# Altium integrated library pdmlse_pcb.IntLib: 82 symbols (part 1 of 2)
Pins are listed as number, name and electrical type; pins without a type are passive.

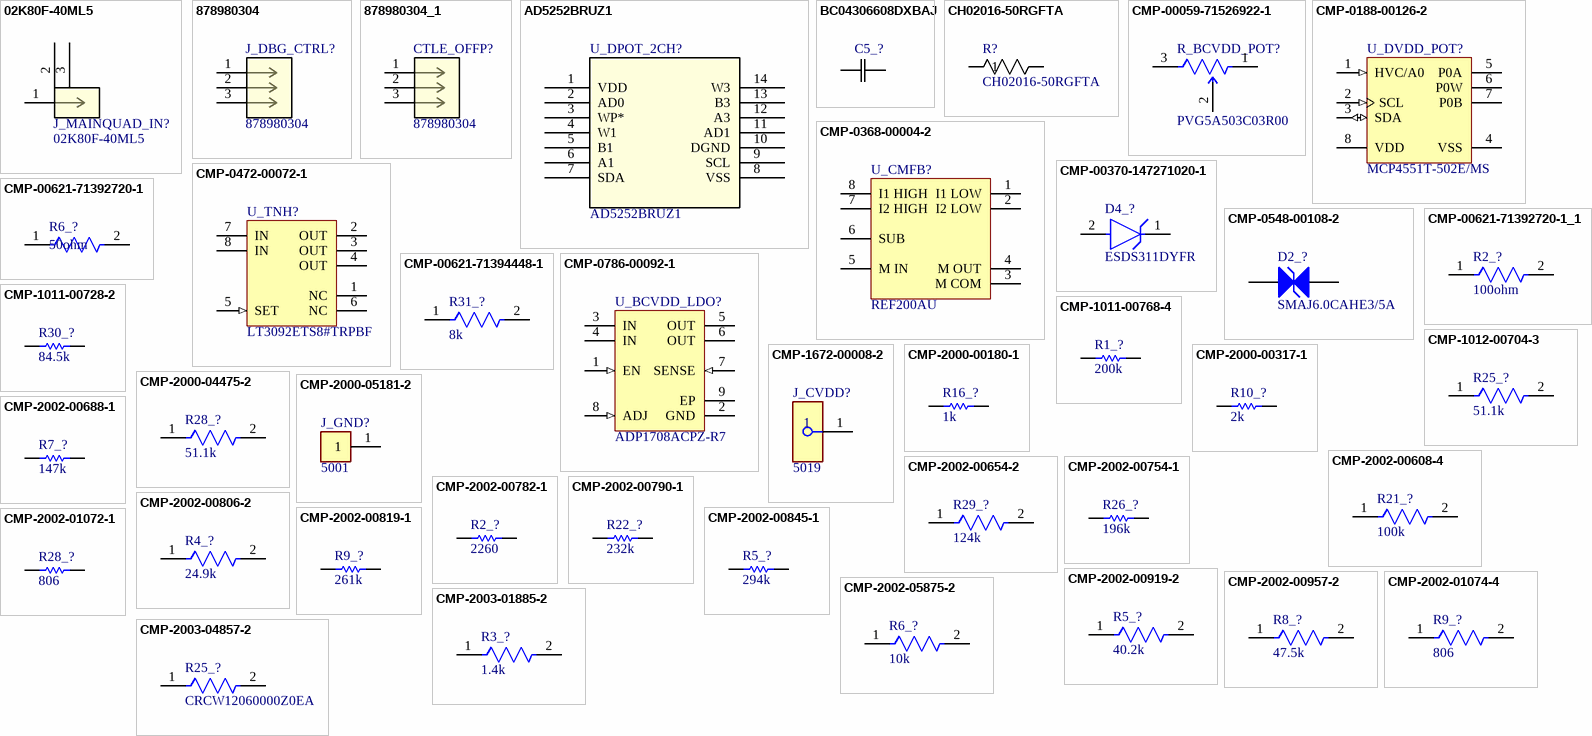
[diagram p0: symbols 02K80F-40ML5 to CMP-2003-04857-2]

## 02K80F-40ML5
designator J_MAINQUAD_IN?
No Description Available; Mfr_Name: Rosenberger; RefDes: RefDes; Type: Type
footprint CONN_02K80F-40ML5_RBG
pins: 1, 2, 3

## 878980304
designator J_DBG_CTRL?
No Description Available; Mfr_Name: Molex Connector Corporation; RefDes: RefDes; Type: Type
footprint CONN03_87898_M-5p84_MOL
pins: 1, 2, 3

## 878980304_1
designator CTLE_OFFP?, comment 878980304
No Description Available; Mfr_Name: Molex Connector Corporation; RefDes: RefDes; Type: Type
footprint CONN03_87898_M-5p84_MOL
pins: 1, 2, 3

## AD5252BRUZ1
designator U_DPOT_2CH?
No Description Available; Mfr_Name: Analog Devices Inc; RefDes: RefDes; Type: Type; Supplier 1: Mouser; Supplier Part Number 1: 584-AD5252BRUZ1
footprint RU_14_ADI
pins: 1 VDD (power), 2 AD0, 3 WP*, 4 W1, 5 B1, 6 A1, 7 SDA, 8 VSS (power), 9 SCL, 10 DGND, 11 AD1, 12 A3, 13 B3, 14 W3

## BC04306608DXBAJ
designator C5_?  (value not drawn)
No Description Available; Mfr_Name: Vishay; Supplier 1: Mouser; Supplier Part Number 1: 77-BC04306608DXBAJ
footprint CAP_BC04_VIS
pins: 1, 2

## CH02016-50RGFTA
designator R?
High precision 50ohm 01005 termination resistor.; Mfr_Name: Vishay; Supplier 1: Mouser; Supplier Part Number 1: 71-CH02016-50RGFTA
footprint RES_CH02016_VIS
pins: 1, 2

## CMP-00059-71526922-1
designator R_BCVDD_POT?, comment PVG5A503C03R00
PVG5A502C03R00 Resistor Trimmer, Cermet, 5 kOhm, ± 10%, 250 mW, 12 Turn, Multi Turn, Surface Mount; NexarPartId: 71526922; Temperature Coefficient: 150ppm/°C; Power Rating: 250mW; Resistance: 5kΩ; Number of Turns: 11; Schedule B: 8533400080, 8533400080|8533400080|8533400080|8533400080|8533400080; RoHS: Compliant; Height: 5.1054mm; Max Operating Temperature: 125°C; Min Operating Temperature: -55°C; Mount: Surface Mount; Max Power Dissipation: 250mW; Tolerance: 10%; Composition: Cermet
footprint FP-PVG5A-MFG
pins: 1 CCW, 2 WIPER, 3 CW

## CMP-0188-00126-2
designator U_DVDD_POT?, comment MCP4551T-502E/MS
8-Bit Single I2C Digital POT with Volatile Memory, 8-pin MSOP, Extended Temperature, Tape and Reel; ComponentLink1Description: Manufacturer URL; ComponentLink2URL: http://ww1.microchip.com/downloads/en/DeviceDoc/DS-22096a.pdf; DatasheetVersion: revA, Nov-2008; PackageDescription: 8-Lead Plastic Micro Small Outline Package (MS) [MSOP]; PackageReference: MSOP-MS8; ComponentLink2Description: Datasheet; ComponentLink3Description: Package Specification; PackageVersion: revBB, Aug-2009; ComponentLink1URL: http://www.microchip.com/; ComponentLink3URL: http://www.microchip.com/stellent/groups/techpub_sg/documents/packagingspec/en012702.pdf; RevisionNote: URLs added.
footprint MSOP-MS8_L (TSOP, 8-Leads, Body 3x3mm, Pitch 0.65mm, IPC High Density)
footprint MSOP-MS8_M (TSOP, 8-Leads, Body 3x3mm, Pitch 0.65mm, IPC Low Density)
footprint MSOP-MS8_N (TSOP, 8-Leads, Body 3x3mm, Pitch 0.65mm, IPC Medium Density)
pins: 1 HVC/A0 (in), 2 SCL (in), 3 SDA (io), 4 VSS (power), 5 P0A, 6 P0W, 7 P0B, 8 VDD (power)

## CMP-0368-00004-2
designator U_CMFB?, comment REF200AU
Dual Current Source / Current Sink, 2.5 to 40 V, 0.1 mA, -25 to 85 degC, 8-pin SOIC (D), Green (RoHS & no Sb/Br); Manufacturer: Texas Instruments; Iout/Iz(Max)(mA): 0.1; VI(Min)(V): 2.5; VI(Max)(V): 40; SubFamily: Current Reference; Code_JEDEC: MS-012; ComponentLink3URL: http://www.ti.com/litv/pdf/msoi002j; ComponentLink3Description: Package Specification; ComponentLink2Description: Datasheet; PartNumber: REF200AU; DatasheetVersion: SBVS020; ComponentLink2URL: http://www.ti.com/general/docs/lit/getliterature.tsp?genericPartNumber=REF200&fileType=pdf; ComponentLink1Description: Manufacturer URL; PackageVersion: 4040047-3/M; PackageReference: D0008A; ComponentLink1URL: http://www.ti.com/; PackageDescription: 8-Pin Plastic Small Outline, Body 4.9 x 3.9 mm, Pitch 1.27 mm; Eco-Plan: Green (RoHS & no Sb/Br); Mounting Technology: Surface Mount
footprint D0008A_N (SOIC, 8-Leads, Body 5x4mm, Pitch 1.27mm, IPC Medium Density)
footprint D0008A_L (SOIC, 8-Leads, Body 5x4mm, Pitch 1.27mm, IPC High Density)
footprint D0008A_M (SOIC, 8-Leads, Body 5x4mm, Pitch 1.27mm, IPC Low Density)
pins: 1 I1 LOW, 2 I2 LOW, 3 M COM, 4 M OUT, 5 M IN, 6 SUB, 7 I2 HIGH, 8 I1 HIGH

## CMP-00370-147271020-1
designator D4_?, comment ESDS311DYFR
ESDS311DYFR One-channel unidirectional device for 3.3V surge protection in SOD-323 package 2-SOT -40 to 125; NexarPartId: 147271020; Manufacturer Lifecycle Status: ACTIVE; Number of Pins: 2; Width: 1.7mm; Length: 1.3mm; Height: 0m; Case/Package: SOT; Thickness: 850µm; Lifecycle Status: Production
footprint FP-DYF0002A-MFG (5-V 60-A Unidirectional surge protection device 2-SOT -40 to 125)
footprint FP-DYF0002A-IPC_A (5-V 60-A Unidirectional surge protection device 2-SOT -40 to 125)
footprint FP-DYF0002A-IPC_B (5-V 60-A Unidirectional surge protection device 2-SOT -40 to 125)
footprint FP-DYF0002A-IPC_C (5-V 60-A Unidirectional surge protection device 2-SOT -40 to 125)
pins: 1 I/O, 2 GND (power)

## CMP-0472-00072-1
designator U_TNH?, comment LT3092ETS8#TRPBF
200 mA Two-Terminal Programmable Current Source, 0.3 mA Isupply, 8-pin SOT23 (TS8-8), -40 to 125 degC, Pb-Free, Tape and Reel; Manufacturer: Linear Technology; Output Current Range: 0.5 mA to 200 mA; Vin Max(V): 40; Vin Min(V): 1.2; Isupply(mA): 0.3; Initial Accuracy(%): 1; Extended Temp: E, I, MP; ComponentLink2URL: http://cds.linear.com/docs/en/datasheet/3092fb.pdf; RoHS: TRUE; ComponentLink1Description: Manufacturer URL; Mounting Technology: Surface Mount; ComponentLink2Description: Datasheet; DatasheetVersion: Rev. B; ComponentLink1URL: http://www.linear.com/; Packing: Tape and Reel; PackageDescription: 8-Pin Plastic TSOT-23, Body 2.9 x 1.63 mm, Pitch 0.65 mm; PackageVersion: Rev. A, 08/2010; Code_JEDEC: MO-193; PartNumber: LT3092ETS8#TRPBF; ComponentLink3Description: Package Specification; ComponentLink3URL: http://cds.linear.com/docs/en/packaging/SOT_8_05-08-1637.pdf; PackageReference: TS8-8; Supplier 1: Mouser; Supplier Part Number 1: 584-LT3092ETS8#TRPBF
footprint LT-TS8-8-TSOT-23_V (SOT23, 8-Leads, Body 2.90x1.63mm, Pitch 0.65mm, Recommended)
footprint TSOT-23_TS8
pins: 1 NC "No Connection. These pins have no connection to internal circuitry and may be tied to IN, OUT, GND or floated.", 2 OUT (power) "This is the power output of the device. The minimum current source value to which the LT3092 can be set is 0.5mA or the device will not regulate.", 3 OUT (power) "This is the power output of the device. The minimum current source value to which the LT3092 can be set is 0.5mA or the device will not regulate.", 4 OUT (power) "This is the power output of the device. The minimum current source value to which the LT3092 can be set is 0.5mA or the device will not regulate.", 5 SET (in) "This pin is the error amplifier’s noninverting input and also sets the operating bias point of the circuit. A fixed 10uA current source flows out of this pin. Two resistors program IOUT as a function of the resistor rati(See Datasheet)", 6 NC "No Connection. These pins have no connection to internal circuitry and may be tied to IN, OUT, GND or floated.", 7 IN (power) "This pin supplies power to bias internal circuitry and supply output load current. For the device to operate properly and regulate, the voltage on this pin must be 1.2V to 1.4V above the OUT pin (depending on output load (See Datasheet)", 8 IN (power) "This pin supplies power to bias internal circuitry and supply output load current. For the device to operate properly and regulate, the voltage on this pin must be 1.2V to 1.4V above the OUT pin (depending on output load (See Datasheet)"

## CMP-0548-00108-2
designator D2_?, comment SMAJ6.0CAHE3/5A
Transient Voltage Suppressor, 6.40 to 231 V, 6 V Stand-off Voltage, Bi-Directional, -55 to 155 degC, 2-pin DO-214AC, Pb-Free, Tape and Reel; Manufacturer: Vishay Semiconductor; VBR Bi-Directional (V): 6.4 to 231; VWM (V): 6; IFSM: 40 A; ID (uA): 1600; PPPM (W): 400, 300; PackageDescription: 2-Pin DO-214AC (SMA), Body 4.245 x 2.665 mm; Packing: Tape and Reel; RoHS: TRUE; ComponentLink3Description: Package Specification; ComponentLink2Description: Datasheet; Mounting Technology: Surface Mount; Operating Junction and Storage Temperature Range: -55 to 150 degC; ComponentLink2URL: http://www.vishay.com/docs/88390/smaj50a.pdf; ComponentLink1Description: Manufacturer URL; DatasheetVersion: 12/8/2013; PackageReference: DO-214AC-2; ComponentLink3URL: http://www.vishay.com/docs/88390/smaj50a.pdf; PartNumber: SMAJ6.0CAHE3/5A; ComponentLink1URL: http://www.vishay.com/; Supplier 1: Mouser; Supplier Part Number 1: 78-SMAJ6.0CAHE3_A/H; ClassName: InputPowerComponent
footprint VISH-DO-214AC-2_L (DO-214AC, 2-Leads, Body 4.5x2.79mm, IPC High Density)
footprint VISH-DO-214AC-2_N (DO-214AC, 2-Leads, Body 4.5x2.79mm, IPC Medium Density)
footprint VISH-DO-214AC-2_M (DO-214AC, 2-Leads, Body 4.5x2.79mm, IPC Low Density)
pins: 1 A1, 2 A2

## CMP-00621-71392720-1
designator R6_?, comment 50ohm
RT0402BRE0750RL Fixed Resistor, Thin Film, 0.0625W, 50ohm, 50V, 0.1% +/-Tol, 50ppm/Cel, Surface Mount, 0402; NexarPartId: 71392720; Max Power Dissipation: 63mW; Temperature Coefficient: 50ppm/°C; Resistance: 50Ω; Features: Moisture Resistant; Max Operating Temperature: 155°C; Tolerance: 0.1%; Min Operating Temperature: -55°C; Case/Package: 0402; Packaging: Tape & Reel; RoHS: Compliant; Width: 508µm; Height: 355.6µm; Composition: Thin Film; Length: 990.6µm; Number of Terminations: 2; Supplier 1: Digikey; Supplier Part Number 1: 13-RT0402BRE0750RLCT-ND
footprint FP-RT0402-0_35-MFG (Fixed Resistor, Thin Film, 0.0625W, 50ohm, 50V, 0.1% +/-Tol, 50ppm/Cel, Surface Mount, 0402)
footprint FP-RT0402-0_35-IPC_A (Fixed Resistor, Thin Film, 0.0625W, 50ohm, 50V, 0.1% +/-Tol, 50ppm/Cel, Surface Mount, 0402)
footprint FP-RT0402-0_35-IPC_B (Fixed Resistor, Thin Film, 0.0625W, 50ohm, 50V, 0.1% +/-Tol, 50ppm/Cel, Surface Mount, 0402)
footprint FP-RT0402-0_35-IPC_C (Fixed Resistor, Thin Film, 0.0625W, 50ohm, 50V, 0.1% +/-Tol, 50ppm/Cel, Surface Mount, 0402)
pins: 1, 2

## CMP-00621-71392720-1_1
designator R2_?, comment 100ohm
RT0402BRE0750RL Fixed Resistor, Thin Film, 0.0625W, 50ohm, 50V, 0.1% +/-Tol, 50ppm/Cel, Surface Mount, 0402; NexarPartId: 71392720; Max Power Dissipation: 63mW; Temperature Coefficient: 50ppm/°C; Resistance: 50Ω; Features: Moisture Resistant; Max Operating Temperature: 155°C; Tolerance: 0.1%; Min Operating Temperature: -55°C; Case/Package: 0402; Packaging: Tape & Reel; RoHS: Compliant; Width: 508µm; Height: 355.6µm; Composition: Thin Film; Length: 990.6µm; Number of Terminations: 2; Supplier 1: Digikey; Supplier Part Number 1: 13-RT0402BRE0750RLCT-ND
footprint FP-RT0402-0_35-MFG (Fixed Resistor, Thin Film, 0.0625W, 50ohm, 50V, 0.1% +/-Tol, 50ppm/Cel, Surface Mount, 0402)
footprint FP-RT0402-0_35-IPC_A (Fixed Resistor, Thin Film, 0.0625W, 50ohm, 50V, 0.1% +/-Tol, 50ppm/Cel, Surface Mount, 0402)
footprint FP-RT0402-0_35-IPC_B (Fixed Resistor, Thin Film, 0.0625W, 50ohm, 50V, 0.1% +/-Tol, 50ppm/Cel, Surface Mount, 0402)
footprint FP-RT0402-0_35-IPC_C (Fixed Resistor, Thin Film, 0.0625W, 50ohm, 50V, 0.1% +/-Tol, 50ppm/Cel, Surface Mount, 0402)
pins: 1, 2

## CMP-00621-71394448-1
designator R31_?, comment 8k
RT0603BRE078KL SMD Chip Resistor, 8 kOhm, ± 0.1%, 100 mW, 0603 [1608 Metric], Thin Film, High Precision High Stability; NexarPartId: 71394448; Power Rating: 100mW; Voltage Rating: 75V; Temperature Coefficient: 50ppm/°C; Resistance: 8kΩ; Number of Terminations: 2; Features: Moisture Resistant; Min Operating Temperature: -55°C; Height: 550µm; Case/Package: 0603; Max Operating Temperature: 155°C; Packaging: Tape & Reel; Tolerance: 0.1%; Length: 1.6002mm; Max Power Dissipation: 100mW; RoHS: Compliant; Composition: Thin Film; Width: 787.4µm
footprint FP-RT0603-0_55-MFG (High Precision-High Stability Chip Resistor Thin Film 0603 32kOhm 0.1% Paper T/R)
footprint FP-RT0603-0_55-IPC_A (High Precision-High Stability Chip Resistor Thin Film 0603 32kOhm 0.1% Paper T/R)
footprint FP-RT0603-0_55-IPC_B (High Precision-High Stability Chip Resistor Thin Film 0603 32kOhm 0.1% Paper T/R)
footprint FP-RT0603-0_55-IPC_C (High Precision-High Stability Chip Resistor Thin Film 0603 32kOhm 0.1% Paper T/R)
pins: 1, 2

## CMP-0786-00092-1
designator U_BCVDD_LDO?, comment ADP1708ACPZ-R7
1 A, Low Dropout, CMOS Linear Regulator, 2.5 to 5.5 V Vin, 0.8 to 5 V Vout, Industrial, 8-pin QFN (CP-8-2), Reel; Manufacturer: Analog Devices; Vin (max) (V): 5.5; Iout max: 1A; Vin (min) (V): 2.5; Vout Adjustable Range: 0.8V to 5V; Supply Current IGND @ Small Load: 50uA; ComponentLink4Description: URL Link1; Packing: Reel; ComponentLink2Description: Datasheet; ComponentLink1URL: http://www.analog.com/en/index.html; PackageVersion: 061507-B, 06/2007; PartNumber: ADP1708ACPZ-R7; Mounting Technology: Surface Mount; PackageReference: CP-8-2; PackageDescription: 8-Pin Lead Frame Chip Scale Package, Body 3 x 3 mm, Pitch 0.5 mm; DatasheetVersion: Rev. 0; ComponentLink1Description: Manufacturer URL; ComponentLink2URL: http://www.analog.com/static/imported-files/data_sheets/ADP1706_1707_1708.pdf; ComponentLink3Description: Package Specification; ComponentLink3URL: http://www.analog.com/static/imported-files/packages/56953322593982CP_8_2.pdf; ComponentLink4URL: Product URL:http://www.analog.com/en/ADP1708/productSearch.html
footprint ADI-CP-8-2_N (QFN, 8-Leads, Body 3x3mm, Pitch 0.5mm, Thermal Pad 1.45X1.74mm, IPC Medium Density)
footprint ADI-CP-8-2_M (QFN, 8-Leads, Body 3x3mm, Pitch 0.5mm, Thermal Pad 1.45X1.74mm, IPC Low Density)
footprint ADI-CP-8-2_L (QFN, 8-Leads, Body 3x3mm, Pitch 0.5mm, Thermal Pad 1.45X1.74mm, IPC High Density)
pins: 1 EN (in) "Enable Input. Drive EN high to turn on the regulator; drive it low to turn off the regulator. For automatic startup, connect EN to IN.", 2 GND (power) "Ground.", 3 IN (power) "Regulator Input Supply. Bypass IN to GND with a 4.7 uF or greater capacitor.", 4 IN (power) "Regulator Input Supply. Bypass IN to GND with a 4.7 uF or greater capacitor.", 5 OUT (power) "Regulated Output Voltage. Bypass OUT to GND with a 4.7 uF or greater capacitor.", 6 OUT (power) "Regulated Output Voltage. Bypass OUT to GND with a 4.7 uF or greater capacitor.", 7 SENSE (in) "Sense. Measures the actual output voltage at the load and feeds it to the error amplifier. Connect SENSE as close as possible to the load to minimize the effect of IR drop between the regulator output and the load.", 8 ADJ (in) "Adjust. A resistor divider from OUT to ADJ sets the output voltage.", 9 EP (power) "The exposed pad on the bottom of the SOIC package and the LFCSP package. EP enhances thermal performance and is electrically connected to GND inside the package. User is recommended to connect EP to the ground plane on the (See Datasheet)"

## CMP-1011-00728-2
designator R30_?, comment 84.5k
Manufacturer: Panasonic; Part Number: ERJ-2RKF8452X
footprint RESC1005X40X25ML05T05 (Chip Resistor, 2-Leads, Body 1.00x0.50mm, IPC Low Density)
footprint RESC1005X40X25NL05T05 (Chip Resistor, 2-Leads, Body 1.00x0.50mm, IPC Medium Density)
footprint RESC1005X40X25LL05T05 (Chip Resistor, 2-Leads, Body 1.00x0.50mm, IPC High Density)
pins: 1, 2
1 alternate drawing of the same symbol

## CMP-1011-00768-4
designator R1_?, comment 200k
Chip Resistor, 200 KOhm, +/- 1%, 100 mW, -55 to 155 degC, 0402 (1005 Metric), RoHS, Tape and Reel; PartNumber: ERJ-2RKF2003X; Manufacturer: Basic Passives; Case\/Package: 0402; Voltage Rating: 50 V; Power Rating: 100 mW; RoHSCompliant: true; Length: 1 mm; DatasheetVersion: 04/2015; ComponentLink2URL: http://industrial.panasonic.com/cdbs/www-data/pdf/RDA0000/AOA0000C86.pdf; Mount: Surface Mount; PackageDescription: 2-Pin Surface Mount Device, Body 1 x 0.5 mm; Tolerance: 1%; Width: 0.5 mm; ComponentLink2Description: Datasheet; Packaging: Tape and Reel; REACH SVHC: No SVHC; Min Operating Temperature: -55 degC; Package Quantity: 10000; ComponentLink1Description: Manufacturer URL; Height: 0.35 mm; ComponentLink1URL: http://www.panasonic.com/; Mounting Technology: Surface Mount; Case Code (Imperial): 0402; PackageReference: 0402; Radiation Hardening: No; Pins: 2; Max Operating Temperature: 155 degC; Resistance: 200 KOhm; Case Code (Metric): 1005
footprint RESC1005X40X25NL05T05 (Chip Resistor, 2-Leads, Body 1.05x0.55mm, IPC Medium Density)
footprint RESC1005X40X25ML05T05 (Chip Resistor, 2-Leads, Body 1.05x0.55mm, IPC Low Density)
footprint RESC1005X40X25LL05T05 (Chip Resistor, 2-Leads, Body 1.05x0.55mm, IPC High Density)
pins: 1, 2

## CMP-1012-00704-3
designator R25_?, comment 51.1k
NexarPartId: 55421809; Temperature Coefficient: 100ppm/°C; Voltage Rating: 75V; Tolerance: 1%; Voltage Rating (DC): 50V; Max Power Dissipation: 100mW; Resistance: 51.1kΩ; Case Code (Imperial): 0603; Max Operating Temperature: 155°C; Depth: 800µm; Height: 450µm; Lead Free: Lead Free; Features: Automotive AEC-Q200; Military Standard: Not; Contact Plating: Tin; Composition: Thick Film; Case/Package: 0603; Mount: Surface Mount; Width: 787.4µm; Length: 1.6mm; Power Rating: 100mW; Lifecycle Status: Production; Schedule B: 8533210045, 8533210045|8533210045|8533210045|8533210045|8533210045; Radiation Hardening: No; Termination: SMD/SMT; REACH SVHC: Unknown; Case Code (Metric): 1608; RoHS: Compliant; Packaging: Cut Tape (CT); Min Operating Temperature: -55°C; Number of Terminations: 2; Supplier 1: Mouser; Supplier Part Number 1: 667-ERJ-3EKF5112V
footprint FP-ERJ3EK-IPC_C
footprint FP-ERJ3EK-MFG
footprint FP-ERJ3EK-IPC_A
footprint FP-ERJ3EK-IPC_B
pins: 1, 2

## CMP-1672-00008-2
designator J_CVDD?, comment 5019
NexarPartId: 22052288; Number of Contacts: 1; Contact Material: Bronze, Silver; Number of Pins: 1; Lead Free: Lead Free; Packaging: Tape and Reel; Mount: Surface Mount; Height: 2.286mm; Contact Plating: Silver; Material: Bronze; Termination: SMD/SMT; REACH SVHC: No SVHC; RoHS: Compliant
footprint FP-5019-MFG (Test Point, Mini, SMT, Phos Bronze/Silver, 1000pc Tape & Reel)
pins: 1

## CMP-2000-00180-1
designator R16_?, comment 1k
Part Number: ERJ-3EKF1001V; Manufacturer: Panasonic; Supplier 1: Mouser; Supplier Part Number 1: 667-ERJ-3EKF1001V
footprint RESC1608X55X30NL15T15 (Chip Resistor, 2-Leads, Body 1.60x0.80mm, IPC Medium Density)
footprint RESC1608X55X30ML15T15 (Chip Resistor, 2-Leads, Body 1.60x0.80mm, IPC Low Density)
footprint RESC1608X55X30LL15T15 (Chip Resistor, 2-Leads, Body 1.60x0.80mm, IPC High Density)
pins: 1, 2
1 alternate drawing of the same symbol

## CMP-2000-00317-1
designator R10_?, comment 2k
Part Number: ERJ-3EKF2001V; Manufacturer: Panasonic
footprint RESC1608X55X30ML15T15 (Chip Resistor, 2-Leads, Body 1.60x0.80mm, IPC Low Density)
footprint RESC1608X55X30LL15T15 (Chip Resistor, 2-Leads, Body 1.60x0.80mm, IPC High Density)
footprint RESC1608X55X30NL15T15 (Chip Resistor, 2-Leads, Body 1.60x0.80mm, IPC Medium Density)
pins: 1, 2
1 alternate drawing of the same symbol

## CMP-2000-04475-2
designator R28_?, comment 51.1k
RES SMD 51.1K OHM 0.1% 1/10W; Manufacturer: Yageo; Manufacturer Part Number: RT0603BRD0751K1L; Tolerance: 0.001; Temperature Coefficient: 25 ppm/°C; Voltage Rating: 75V; Power Rating: 0.1W; Resistance: 51.1KΩ; Value: 51.1KΩ; Height: 0.55mm; ComponentLink2Description: Datasheet; Ipc Land Pattern Name: RESC16080X45; Digikey Description: RES SMD 51.1K OHM 0.1% 1/10W; RoHS: TRUE; Temperature Range Low: -55°C; Composition: Thin Film; Mouser Description: Thin Film Resistors - SMD 1/10W 51.1K ohm .1% 25ppm; Device Class L2: Resistors; Octopart: https://octopart.com/rt0603brd0751k1l-yageo-1281879; Device Class L3: Chip SMD Resistors; Device Class L1: Passive Components; ComponentLink2URL: http://www.yageo.com/documents/recent/PYu-RT_1-to-0.01_RoHS_L_9.pdf; Automotive: No; Series: RT; Category: Res; Lead Free: Yes; Footprint Url: http://www.yageo.com/exep/pages/download/literatures/PYu-R_Mount_10.pdf; Temperature Range High: +155°C; Temperature: -55°C to +155°C; Package: RT0603
footprint FP-RT0603-MFG
footprint FP-RT0603-IPC_C
footprint FP-RT0603-IPC_B
footprint FP-RT0603-IPC_A
pins: 1, 2

## CMP-2000-05181-2
designator J_GND?, comment 5001
PC TEST POINT MINIATURE BLACK; Body Material: Bronze; Plating: Silver; Inside Diameter: 1.27mm; Hole Diameter: 1.6mm; Number of Ports: 1; Outside Diameter: 2.54mm; Insulation: Insulated; Insulation Material: Nylon; Mount: Through Hole; RoHS Compliant: Yes; Series: THM; Height: 0.3inch; Termination: Through Hole; Material: Nylon; Packaging: Bulk; Contact Material: Bronze; REACH SVHC: No SVHC; Contact Plating: Silver; Orientation: Straight; Lead Free: Lead Free; Package Quantity: 100; Length: 7.62mm; Flammability Rating: UL94 V-0; Number of Contacts: 1; Diameter: 2.54mm; Housing Color: Black; Color: Black
footprint FP-5001-MFG
pins: 1

## CMP-2002-00608-4
designator R21_?, comment 100k
RES SMD 100K OHM 1% 1/10W 0402; Resistance: 100kR; Voltage Rating (DC): 50V; Power Rating: 100mW; Temperature Coefficient: 100ppm/°C; Case/Package: 0402; Length: 1mm; Package Quantity: 1; Radiation Hardening: No; Case Code (Metric): 1005; Contact Plating: Tin; Mount: Surface Mount; Depth: 0.5mm; Max Operating Temperature: 155°C; Lead Free: Lead Free; Width: 0.5mm; Composition: Thick Film; Case Code (Imperial): 0402; Tolerance: 1%; Termination: SMD/SMT; Number of Pins: 2; Height: 0.35mm; Voltage Rating: 50V; Military Standard: Not; REACH SVHC: No SVHC; Packaging: Tape and Reel; Min Operating Temperature: -55°C; Max Power Dissipation: 100mW; Features: Automotive AEC-Q200; Number of Terminations: 2
footprint FP-ERJ2RK-IPC_C
footprint FP-ERJ2RK-IPC_A
footprint FP-ERJ2RK-IPC_B
footprint FP-ERJ2RK-MFG
pins: 1, 2

## CMP-2002-00654-2
designator R29_?, comment 124k
NexarPartId: 55403631; Voltage Rating: 50V; Temperature Coefficient: 100ppm/°C; Tolerance: 1%; Power Rating: 100mW; Resistance: 124kΩ; Contact Plating: Tin; REACH SVHC: No SVHC; Depth: 500µm; Military Standard: Not; Width: 508µm; Features: Automotive AEC-Q200; Radiation Hardening: No; RoHS: Compliant; Number of Terminations: 2; Termination: SMD/SMT; Packaging: Cut Tape (CT); Min Operating Temperature: -55°C; Case Code (Metric): 1005; Lifecycle Status: Production; Schedule B: 8533210045, 8533210045; Case/Package: 0402; Length: 1mm; Lead Free: Lead Free; Max Power Dissipation: 100mW; Height: 406.4µm; Mount: Surface Mount; Max Operating Temperature: 155°C; Case Code (Imperial): 0402; Composition: Thick Film; Voltage Rating (DC): 50V
footprint FP-ERJ2RK-MFG (Res Thick Film 0402 18K Ohm 1% 0.1W(1/10W) +/-100ppm/C Molded SMD Automotive Punched T/R)
footprint FP-ERJ2RK-IPC_A (Res Thick Film 0402 18K Ohm 1% 0.1W(1/10W) +/-100ppm/C Molded SMD Automotive Punched T/R)
footprint FP-ERJ2RK-IPC_B (Res Thick Film 0402 18K Ohm 1% 0.1W(1/10W) +/-100ppm/C Molded SMD Automotive Punched T/R)
footprint FP-ERJ2RK-IPC_C (Res Thick Film 0402 18K Ohm 1% 0.1W(1/10W) +/-100ppm/C Molded SMD Automotive Punched T/R)
pins: 1, 2

## CMP-2002-00688-1
designator R7_?, comment 147k
RES SMD 147K OHM 1% 1/10W 0402; Part Number: ERJ-2RKF1473X; Manufacturer: Panasonic
footprint RESC1005X40X25NL05T05 (Chip Resistor, 2-Leads, Body 1.00x0.50mm, IPC Medium Density)
footprint RESC1005X40X25ML05T05 (Chip Resistor, 2-Leads, Body 1.00x0.50mm, IPC Low Density)
footprint RESC1005X40X25LL05T05 (Chip Resistor, 2-Leads, Body 1.00x0.50mm, IPC High Density)
pins: 1, 2
1 alternate drawing of the same symbol

## CMP-2002-00754-1
designator R26_?, comment 196k
RES SMD 196K OHM 1% 1/10W 0402; Manufacturer: Panasonic; Part Number: ERJ-2RKF1963X
footprint RESC1005X40X25NL05T05 (Chip Resistor, 2-Leads, Body 1.00x0.50mm, IPC Medium Density)
footprint RESC1005X40X25ML05T05 (Chip Resistor, 2-Leads, Body 1.00x0.50mm, IPC Low Density)
footprint RESC1005X40X25LL05T05 (Chip Resistor, 2-Leads, Body 1.00x0.50mm, IPC High Density)
pins: 1, 2
1 alternate drawing of the same symbol

## CMP-2002-00782-1
designator R2_?, comment 2260
Manufacturer: Panasonic; Part Number: ERJ-2RKF2261X; Supplier 1: Mouser; Supplier Part Number 1: 667-ERJ-2RKF2261X
footprint RESC1005X40X25NL05T05 (Chip Resistor, 2-Leads, Body 1.00x0.50mm, IPC Medium Density)
footprint RESC1005X40X25ML05T05 (Chip Resistor, 2-Leads, Body 1.00x0.50mm, IPC Low Density)
footprint RESC1005X40X25LL05T05 (Chip Resistor, 2-Leads, Body 1.00x0.50mm, IPC High Density)
pins: 1, 2
1 alternate drawing of the same symbol

## CMP-2002-00790-1
designator R22_?, comment 232k
Manufacturer: Panasonic; Part Number: ERJ-2RKF2323X
footprint RESC1005X40X25LL05T05 (Chip Resistor, 2-Leads, Body 1.00x0.50mm, IPC High Density)
footprint RESC1005X40X25NL05T05 (Chip Resistor, 2-Leads, Body 1.00x0.50mm, IPC Medium Density)
footprint RESC1005X40X25ML05T05 (Chip Resistor, 2-Leads, Body 1.00x0.50mm, IPC Low Density)
pins: 1, 2
1 alternate drawing of the same symbol

## CMP-2002-00806-2
designator R4_?, comment 24.9k
RES SMD 24.9K OHM 1% 1/10W 0402; Voltage Rating (DC): 50V; Temperature Coefficient: 100ppm/°C; Max Power Dissipation: 100mW; Resistance: 24.9kR; Size Code: 0402; Series: ERJ; Package Quantity: 1; Packaging: Tape and Reel; Lead Free: Lead Free; Mount: Surface Mount; Construction: Rectangular; Depth: 0.5mm; Contact Plating: Tin; Length: 1mm; Termination: SMD/SMT; Height: 0.016inch; Military Standard: Not; Voltage Rating: 50V; Resistor Type: Thick Film; Number of Terminations: 2; Case/Package: 0402; REACH SVHC: No SVHC; Case Code (Metric): 1005; Power Rating: 100mW; Tolerance: 1%; Weight: 2.8E-05oz; RoHS Compliant: Yes; Case Code (Imperial): 0402; Max Operating Temperature: 155°C; Features: Automotive AEC-Q200; Width: 0.02inch; Resistance Tolerance: 1%; Min Operating Temperature: -55°C
footprint FP-ERJ2RK-MFG
footprint FP-ERJ2RK-IPC_C
footprint FP-ERJ2RK-IPC_B
footprint FP-ERJ2RK-IPC_A
pins: 1, 2

## CMP-2002-00819-1
designator R9_?, comment 261k
Manufacturer: Panasonic; Part Number: ERJ-2RKF2613X
footprint RESC1005X40X25LL05T05 (Chip Resistor, 2-Leads, Body 1.00x0.50mm, IPC High Density)
footprint RESC1005X40X25ML05T05 (Chip Resistor, 2-Leads, Body 1.00x0.50mm, IPC Low Density)
footprint RESC1005X40X25NL05T05 (Chip Resistor, 2-Leads, Body 1.00x0.50mm, IPC Medium Density)
pins: 1, 2
1 alternate drawing of the same symbol

## CMP-2002-00845-1
designator R5_?, comment 294k
RES SMD 294K OHM 1% 1/10W 0402; Part Number: ERJ-2RKF2943X; Manufacturer: Panasonic
footprint RESC1005X40X25ML05T05 (Chip Resistor, 2-Leads, Body 1.00x0.50mm, IPC Low Density)
footprint RESC1005X40X25LL05T05 (Chip Resistor, 2-Leads, Body 1.00x0.50mm, IPC High Density)
footprint RESC1005X40X25NL05T05 (Chip Resistor, 2-Leads, Body 1.00x0.50mm, IPC Medium Density)
pins: 1, 2
1 alternate drawing of the same symbol

## CMP-2002-00919-2
designator R5_?, comment 40.2k
RES SMD 40.2K OHM 1% 1/10W 0402; Max Power Dissipation: 100mW; Voltage Rating (DC): 50V; Temperature Coefficient: 100ppm/°C; Resistance: 40.2kR; Case Code (Metric): 1005; REACH SVHC: No SVHC; Height: 0.35mm; Mount: Surface Mount; Series: ERJ; Width: 0.02inch; Contact Plating: Tin; Number of Terminations: 2; Max Operating Temperature: 155°C; Length: 1mm; Case Code (Imperial): 0402; Construction: Rectangular; Depth: 0.5mm; Features: Automotive AEC-Q200; Weight: 2.8E-05oz; Power Rating: 100mW; Lead Free: Lead Free; Case/Package: 0402; Resistor Type: Thick Film; Termination: SMD/SMT; Voltage Rating: 50V; Package Quantity: 1; Packaging: Tape and Reel; Min Operating Temperature: -55°C; Resistance Tolerance: 1%; Military Standard: Not; Tolerance: 1%; Technology: THICK FILM; RoHS Compliant: Yes
footprint FP-ERJ2RK-IPC_A
footprint FP-ERJ2RK-MFG
footprint FP-ERJ2RK-IPC_C
footprint FP-ERJ2RK-IPC_B
pins: 1, 2

## CMP-2002-00957-2
designator R8_?, comment 47.5k
RES SMD 47.5K OHM 1% 1/10W 0402; Voltage Rating: 50V; Max Power Dissipation: 100mW; Temperature Coefficient: 100ppm/°C; Resistance: 47.5kR; Packaging: Tape and Reel; Height: 0.35mm; Resistor Type: Thick Film; Width: 0.02inch; Case Code (Imperial): 0402; Voltage Rating (DC): 50V; Package Quantity: 1; Construction: Rectangular; Termination: SMD/SMT; Min Operating Temperature: -55°C; Case Code (Metric): 1005; Features: Automotive AEC-Q200; Length: 1mm; Number of Terminations: 2; Resistance Tolerance: 1%; Power Rating: 100mW; Size Code: 0402; Contact Plating: Tin; RoHS Compliant: Yes; REACH SVHC: No SVHC; Max Operating Temperature: 155°C; Depth: 0.5mm; Technology: THICK FILM; Tolerance: 1%; Mount: Surface Mount; Series: ERJ; Military Standard: Not; Lead Free: Lead Free; Case/Package: 0402
footprint FP-ERJ2RK-IPC_A
footprint FP-ERJ2RK-MFG
footprint FP-ERJ2RK-IPC_C
footprint FP-ERJ2RK-IPC_B
pins: 1, 2

## CMP-2002-01072-1
designator R28_?, comment 806
Manufacturer: Panasonic; Part Number: ERJ-2RKF8060X
footprint RESC1005X40X25ML05T05 (Chip Resistor, 2-Leads, Body 1.00x0.50mm, IPC Low Density)
footprint RESC1005X40X25LL05T05 (Chip Resistor, 2-Leads, Body 1.00x0.50mm, IPC High Density)
footprint RESC1005X40X25NL05T05 (Chip Resistor, 2-Leads, Body 1.00x0.50mm, IPC Medium Density)
pins: 1, 2
1 alternate drawing of the same symbol

## CMP-2002-01074-4
designator R9_?, comment 806
RES SMD 80.6K OHM 1% 1/10W 0402; NexarPartId: 55421299; Max Power Dissipation: 100mW; Temperature Coefficient: 100ppm/°C; Voltage Rating: 50V; Resistance: 80.6kΩ; Length: 1mm; Number of Terminations: 2; REACH SVHC: No SVHC; Composition: Thick Film; Case Code (Imperial): 0402; RoHS: Compliant; Max Operating Temperature: 155°C; Military Standard: Not; Case Code (Metric): 1005; Depth: 500µm; Termination: SMD/SMT; Contact Plating: Tin; Tolerance: 1%; Voltage Rating (DC): 50V; Min Operating Temperature: -55°C; Case/Package: 0402; Schedule B: 8533210045, 8533210045; Height: 400µm; Power Rating: 100mW; Packaging: Cut Tape (CT); Features: Automotive AEC-Q200; Lead Free: Lead Free; Width: 508µm; Lifecycle Status: Production; Mount: Surface Mount
footprint FP-ERJ2RK-MFG (Res Thick Film 0402 18K Ohm 1% 0.1W(1/10W) +/-100ppm/C Molded SMD Automotive Punched T/R)
footprint FP-ERJ2RK-IPC_A (Res Thick Film 0402 18K Ohm 1% 0.1W(1/10W) +/-100ppm/C Molded SMD Automotive Punched T/R)
footprint FP-ERJ2RK-IPC_B (Res Thick Film 0402 18K Ohm 1% 0.1W(1/10W) +/-100ppm/C Molded SMD Automotive Punched T/R)
footprint FP-ERJ2RK-IPC_C (Res Thick Film 0402 18K Ohm 1% 0.1W(1/10W) +/-100ppm/C Molded SMD Automotive Punched T/R)
pins: 1, 2

## CMP-2002-05875-2
designator R6_?, comment 10k
RES SMD 10K OHM 0.1% 1/16W 0402; Manufacturer Part Number: ERA-2AEB103X; Manufacturer: Panasonic; Temperature Coefficient: 25ppm/°C; Automotive Grade: Grade 0; Resistance: 10kΩ; Power Rating: 0.063W; Voltage Rating: 50V; Value: 10kΩ; RoHS: TRUE; Device Class L3: Chip SMD Resistors; Automotive: Yes; Series: ERA; Height: 0.4mm; Package: ERA2A; Temperature Range Low: -55°C; ComponentLink2Description: Datasheet; Tolerance: 0.1%; Device Class L2: Resistors; Temperature Range High: +155°C; Device Class L1: Passive Components; Digikey Description: RES SMD 10K OHM 0.1% 1/16W 0402; Category: Res; Mouser Description: Thin Film Resistors - SMD 0402 1/16W 10Kohms; Lead Free: Yes; Footprint Url: https://industrial.panasonic.com/cdbs/www-data/pdf/RDM0000/DMM0000COL17.pdf; Composition: Metal Film; Octopart: https://octopart.com/era-2aeb103x-panasonic-9251377; ComponentLink2URL: https://industrial.panasonic.com/cdbs/www-data/pdf/RDM0000/AOA0000C307.pdf; Temperature: -55°C to +155°C
footprint FP-ERA2A-MFG
footprint FP-ERA2A-IPC_C
footprint FP-ERA2A-IPC_B
footprint FP-ERA2A-IPC_A
pins: 1, 2

## CMP-2003-01885-2
designator R3_?, comment 1.4k
RES Thick Film, 1.4kΩ, 1%, 0.25W, 100ppm/°C, 1206; Voltage Rating (DC): 200V; Max Power Dissipation: 250mW; Resistance: 1.4kR; Number of Terminations: 2; Height: 0.024inch; Packaging: Tape and Reel; Contact Plating: Tin; Composition: Thick Film; Max Operating Temperature: 155°C; Temperature Coefficient: 100ppm/°C; Case/Package: 1206; Depth: 1.6mm; Case Code (Imperial): 1206; Military Standard: Not; Tolerance: 1%; Min Operating Temperature: -55°C; Power Rating: 250mW; Length: 3.2mm; Case Code (Metric): 3216; Voltage Rating: 200V; Width: 1.6mm; Package Quantity: 5000; Lead Free: Lead Free; Radiation Hardening: No; Features: Automotive AEC-Q200; Weight: 0.000353oz; Number of Pins: 2
footprint FP-CRCW1206-e3-IPC_B
footprint FP-CRCW1206-e3-IPC_C
footprint FP-CRCW1206-e3-MFG
footprint FP-CRCW1206-e3-IPC_A
pins: 1, 2

## CMP-2003-04857-2
designator R25_?, comment CRCW12060000Z0EA
RES Thick Film, 0Ω, 0.25W, 1206; Resistance: 0mR; Power Rating: 250mW; Temperature Coefficient: 100ppm/°C; Tolerance: 1%; Voltage Rating (DC): 200V; Width: 1.6mm; Termination: SMD/SMT; Contact Plating: Tin; Min Operating Temperature: -55°C; Military Standard: Not; Mount: Surface Mount; Case Code (Metric): 3216; Case Code (Imperial): 1206; Packaging: Tape and Reel; Depth: 1.6mm; Case/Package: 1206; Radiation Hardening: No; Height: 0.55mm; Package Quantity: 5000; Weight: 0.000353oz; Max Operating Temperature: 155°C; Length: 3.2mm; Composition: Thick Film; Lead Free: Lead Free; Voltage Rating: 200V
footprint FP-CRCW1206-e3-IPC_C
footprint FP-CRCW1206-e3-MFG
footprint FP-CRCW1206-e3-IPC_A
footprint FP-CRCW1206-e3-IPC_B
pins: 1, 2

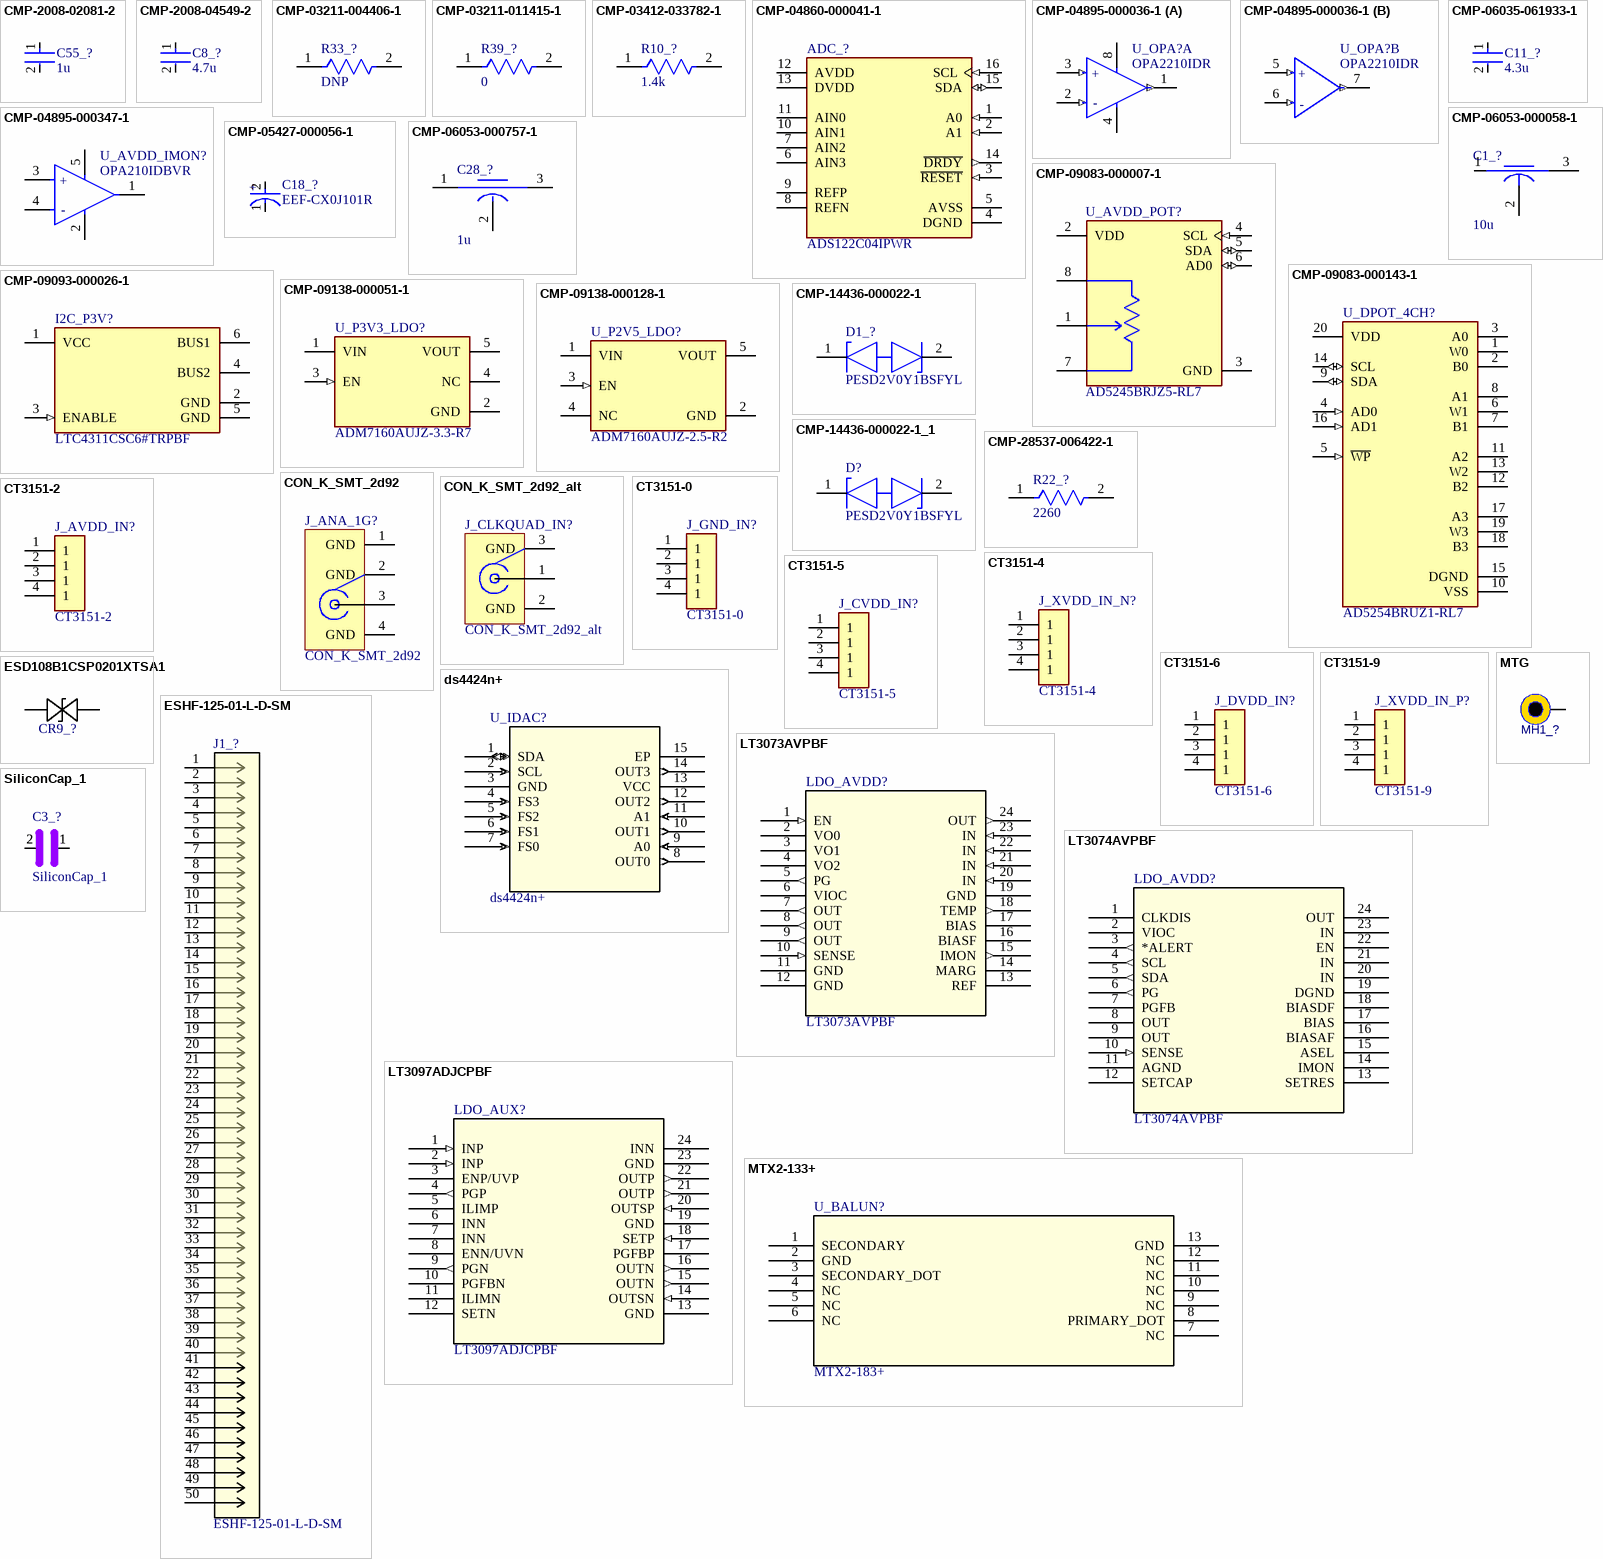
[diagram p1: symbols CMP-2008-02081-2 to SiliconCap_1]

## CMP-2008-02081-2
designator C55_?, comment 1u
CAP CER 1UF 10V X5R 0402; Dielectric Material: Ceramic; Dissipation Factor: 5%; Tolerance: 10%; Number of Pins: 2; Contact Plating: Tin; Min Operating Temperature: -55°C; Termination: SMD/SMT; Lead Free: Lead Free; Construction: Flat; Voltage Rating (DC): 10V; Mount: Surface Mount; Series: C; Thickness: 0.022inch; Width: 0.5mm; Radiation Hardening: No; Capacitance: 1uF; Dielectric: X5R; Height: 0.5mm; Voltage: 10V; Length: 1mm; Depth: 0.5mm; Max Operating Temperature: 85°C; Package Quantity: 1; Packaging: Tape and Reel; RoHS Compliant: Yes; Case Code (Imperial): 0402; Case Code (Metric): 1005; REACH SVHC: No SVHC; Voltage Rating: 10V; Case/Package: 0402; Supplier 1: Mouser; Supplier Part Number 1: 80-C0402C105K8P
footprint FP-C0402C105K8PACTU-IPC_A
footprint FP-C0402C105K8PACTU-MFG
footprint FP-C0402C105K8PACTU-IPC_C
footprint FP-C0402C105K8PACTU-IPC_B
pins: 1, 2

## CMP-2008-04549-2
designator C8_?, comment 4.7u
Chip Multilayer Ceramic Capacitors for General Purpose, 0402, 4.7uF, X5R, 15%, 20%, 6.3V; Height: 0.5mm; Weight: 0.000212oz; Length: 1mm; Case Code (Metric): 1005; Packaging: Tape and Reel; Termination: SMD/SMT; Dielectric: X5R; Depth: 0.5mm; Case Code (Imperial): 0402; Min Operating Temperature: -55°C; Case/Package: 0402; Voltage: 6.3V; Width: 0.02inch; Capacitance: 4.7uF; Lead Free: Lead Free; Thickness: 0.022inch; Contact Plating: Tin; REACH SVHC: No SVHC; Package Quantity: 10000; Tolerance: 20%; Voltage Rating (DC): 6.3V; Voltage Rating: 6.3V; Mount: Surface Mount; Max Operating Temperature: 85°C
footprint FP-GRM155-0_1-IPC_B
footprint FP-GRM155-0_1-IPC_A
footprint FP-GRM155-0_1-IPC_C
footprint FP-GRM155-0_1-MFG
pins: 1, 2

## CMP-03211-004406-1
designator R33_?, comment DNP
RES SMD 1.4KΩ 0.1% 1/16W 0603; Manufacturer Part Number: CPF0603B1K4E1; Manufacturer: TE Connectivity; Temperature Coefficient: 25ppm/°C; Voltage Rating: 50V; Power Rating: 0.063W; Resistance: 1.4KΩ; packaging: 1k Reel; Height: 0.55mm; Composition: Thin Film; Lead Free: Yes; Tolerance: 0.1%; Package: CPF0603; Category: Res; Octopart: https://octopart.com/cpf0603b1k4e1-te+connectivity-22739536; RoHS: TRUE; Ipc Land Pattern Name: RESC15580X45; Value: 1.4KΩ; Temperature Range High: +155°C; Temperature: -55°C to +155°C; ComponentLink2Description: Datasheet; octopart_url: https://octopart.com/cpf0603b1k4e1-te+connectivity-22739536; Temperature Range Low: -55°C; ComponentLink2URL: https://www.te.com/commerce/DocumentDelivery/DDEController?Action=showdoc&DocId=Data+Sheet%7F1773200%7FM%7Fpdf%7FEnglish%7FENG_DS_1773200_M.pdf%7F3-1676481-2; Automotive: No; Device Class L2: Resistors; Device Class L1: Passive Components; Series: CPF; Device Class L3: Chip SMD Resistors
footprint FP-CPF0603-IPC_C
footprint FP-CPF0603-IPC_A
footprint FP-CPF0603-MFG
footprint FP-CPF0603-IPC_B
pins: 1, 2

## CMP-03211-011415-1
designator R39_?, comment 0
RES SMD 0 OHM JUMPER 1/10W 0603; Voltage Rating: 50V; Resistance: 0mR; Power Rating: 100mW; Number of Resistors: 1; Tolerance: 0%; Temperature Coefficient: 100ppm/°C; Packaging: Tape and Reel; Series: CRG, Neohm; Technology: THICK FILM; Depth: 0.8mm; Width: 0.8mm; Min Operating Temperature: -55°C; Number of Terminations: 2; Length: 1.6mm; Weight: 7.1E-05oz; Resistor Type: Thick Film; Height: 0.45mm; Max Operating Temperature: 125°C; Case/Package: 0603; ELV: Compliant; Package Quantity: 5000; Radiation Hardening: No; RoHS Compliant: Yes; Termination: Solder; Case Code (Metric): 1608; Mount: Surface Mount; Case Code (Imperial): 0603; Max Power Dissipation: 100mW
footprint FP-CRG0603-IPC_C
footprint FP-CRG0603-IPC_A
footprint FP-CRG0603-IPC_B
pins: 1, 2

## CMP-03412-033782-1
designator R10_?, comment 1.4k
RES SMD 1.4K OHM 0.1% 1/10W 0603; Manufacturer Part Number: RT0603BRD071K4L; Manufacturer: Yageo; Tolerance: 0.001; Voltage Rating: 75V; Temperature Coefficient: 25 ppm/°C; Resistance: 1.4KΩ; Value: 1.4KΩ; Power Rating: 0.1W; Device Class L3: Chip SMD Resistors; Package: RT0603; RoHS: TRUE; Lead Free: Yes; Footprint Url: http://www.yageo.com/exep/pages/download/literatures/PYu-R_Mount_10.pdf; Device Class L2: Resistors; Ipc Land Pattern Name: RESC16080X45; Digikey Description: RES SMD 1.4K OHM 0.1% 1/10W 0603; ComponentLink2Description: Datasheet; Category: Res; Mouser Description: Res Thin Film 0603 1.4k Ohm 0.1% 1/10W ±25ppm/°C Molded SMD Paper T/R; Temperature: -55°C to +155°C; Temperature Range High: +155°C; Octopart: https://octopart.com/rt0603brd071k4l-yageo-1419726; Device Class L1: Passive Components; ComponentLink2URL: http://www.yageo.com/documents/recent/PYu-RT_1-to-0.01_RoHS_L_9.pdf; Series: RT; Height: 0.55mm; Composition: Thin Film; Temperature Range Low: -55°C; Automotive: No
footprint FP-RT0603-MFG
footprint FP-RT0603-IPC_C
footprint FP-RT0603-IPC_B
footprint FP-RT0603-IPC_A
pins: 1, 2

## CMP-04860-000041-1
designator ADC_?, comment ADS122C04IPWR
IC ADC 24BIT SIGMA-DELTA 16TSSOP; Sampling Rate: 2000S/s; Number of Bits: 24; Number of A/D Converters: 1; Number of Inputs: 4; Interface: I2C; Packaging: Tape and Reel; Case/Package: TSSOP; Mount: Surface Mount; RoHS Compliant: Yes; Max Operating Temperature: 125°C; Number of Pins: 16; Min Operating Temperature: -40°C
footprint FP-PW0016A-IPC_C
footprint FP-PW0016A-IPC_A
footprint FP-PW0016A-MFG
footprint FP-PW0016A-IPC_B
pins: 1 A0 (in), 2 A1 (in), 3 ~{RESET} (in), 4 DGND (power), 5 AVSS (power), 6 AIN3, 7 AIN2, 8 REFN, 9 REFP, 10 AIN1, 11 AIN0, 12 AVDD (power), 13 DVDD (power), 14 ~{DRDY} (out), 15 SDA (io), 16 SCL (in)

## CMP-04895-000036-1
designator U_OPA?, comment OPA2210IDR
IC OP-AMP; Manufacturer: Texas Instruments; Max Dual Supply Voltage: 18V; Nominal Supply Current: 2.2mA; Standoff Height: 0.11mm; Number Of Channels: 2; Max Supply Voltage: 36V; Min Supply Voltage: 4.5V; Max Junction Temp: +150°C; Input Bias Current: 0.0003uA; Min Dual Supply Voltage: 2.25V; Gain Bandwidth: 18MHz; Output Current Per Channel: 65mA; Octopart: https://octopart.com/opa2210idr-texas+instruments-105815795; Temperature Range Low: -55°C; ComponentLink2URL: https://www.ti.com/lit/ds/symlink/opa2210.pdf; Package: D0008A; Ambient Temperature Range Low: -55°C; Manufacturer Part Number: OPA2210IDR; Automotive: No; Temperature Range High: +150°C; Height: 1.75mm; Ambient Temperature Range High: +150°C; ComponentLink2Description: Datasheet; Device Class L2: Linear ICs; Category: IC; Device Class L1: Integrated Circuits (ICs); Digikey Description: IC OP-AMP; Device Class L3: Amplifiers - Op Amps; RoHS: TRUE; Temperature: -55°C to +150°C; Lead Free: Yes
footprint FP-D0008A-MFG
footprint FP-D0008A-IPC_C
footprint FP-D0008A-IPC_B
footprint FP-D0008A-IPC_A
part A pins: 1 OUT A (out), 2 -IN A (in), 3 +IN A (in), 4 V- (power), 8 V+ (power)
part B pins: 5 +IN B (in), 6 -IN B (in), 7 OUT B (out)
part A text: +; -
part B text: +; -

## CMP-04895-000347-1
designator U_AVDD_IMON?, comment OPA210IDBVR
3.3-V, LOW-DRIFT, LOW-POWER, SMA
footprint FP-DBV0005A-IPC_B
footprint FP-DBV0005A-IPC_A
footprint FP-DBV0005A-MFG
footprint FP-DBV0005A-IPC_C
pins: 1 OUT, 2 V- (power), 3 +IN (hiz), 4 -IN (hiz), 5 V+ (power)
text: +; -

## CMP-05427-000056-1
designator C18_?, comment EEF-CX0J101R
CAP ALUM POLY 100UF 20% 6.3V SMD; Leakage Current: 63uA; Polarity: Polar; Lead Diameter: 2.4mm; Dissipation Factor: 0.06%; Ripple Current: 2.7A; ESR (Equivalent Series Resistance): 15mR; Life (Hours): 1000Hour; Voltage Rating: 6.3V; Case/Package: 2917; Lead Pitch: 1.3mm; Series: SP-Cap CX; Weight: 0.004586oz; Radiation Hardening: No; Case Code (Imperial): 2917; Length: 7.3mm; Number of Pins: 2; Lead Free: Lead Free; REACH SVHC: No SVHC; Max Operating Temperature: 105°C; Package Quantity: 3500; Packaging: Tape and Reel; Height - Seated (Max): 0.075inch; Mount: Surface Mount; Height: 1.9mm; Termination: SMD/SMT; Voltage: 6.3V; Construction: Flat; Width: 0.169inch; Ripple Current (AC): 2.7A; Capacitance: 100uF; Voltage Rating (DC): 6.3V; Case Code (Metric): 7343; Min Operating Temperature: -40°C; Tolerance: 20%; RoHS Compliant: Yes; Depth: 4.3mm; ClassName: InputPowerComponent
footprint FP-CX-MFG
pins: 1 C, 2 A
text: +

## CMP-06035-061933-1
designator C11_?, comment 4.3u
Cap Ceramic Monolithic 4.3uF 20% 4V X5R 15% 02404 (0610M); Capacitance: 4.3uF; Tolerance: 20%; Voltage Rating: 4V; Min Operating Temperature: -55°C; Case/Package: 0204; Mount: Surface Mount; Max Operating Temperature: 85°C; Packaging: Tape and Reel; RoHS Compliant: Yes
footprint FP-LLL1U4-0_05-IPC_C
footprint FP-LLL1U4-0_05-MFG
footprint FP-LLL1U4-0_05-IPC_B
footprint FP-LLL1U4-0_05-IPC_A
pins: 1, 2

## CMP-06053-000058-1
designator C1_?, comment 10u
CAP FEEDTHRU
footprint FP-NFM15-0_2-MFG
pins: 1 Input, 2 GND, 3 Output

## CMP-06053-000757-1
designator C28_?, comment 1u
0402(1005M) 4V 1.0UF +/- 20% 3 T; Capacitance: 1uF; Current: 2A; Case/Package: 0402; Max Operating Temperature: 125°C; Min Operating Temperature: -55°C; Mount: Surface Mount; Ratings: AEC-Q200; Series: EMIFIL®, NFM15; Supplier 1: Mouser; Supplier Part Number 1: 81-NFM15HC105D0G3D; Tolerance: 20%; Voltage Rating: 4V
footprint PCBComponent_1
pins: 1 Input, 2 GND, 3 Output

## CMP-09083-000007-1
designator U_AVDD_POT?, comment AD5245BRJZ5-RL7
IC DGTL POT 5KOHM 256TAP SOT23-8; Manufacturer: Analog Devices Inc; Max Supply Voltage: 5.5V; Max Junction Temp: +150°C; Tolerance: 30%; Number Of Taps: 256; Number Of Circuits: 1; Temperature Coefficient: 45ppm/°C; Nominal Resistance: 5kΩ; Nominal Supply Current: 3uA; Interface: I2C; Min Supply Voltage: 2.7V; Temperature Range High: +125°C; Lead Free: Yes; Mouser Description: Digital Potentiometer 5kOhm 256POS Volatile Automotive 8-Pin SOT-23 T/R; Device Class L1: Integrated Circuits (ICs); Automotive: No; ComponentLink2Description: Datasheet; Category: IC; Package: RJ-8; RoHS: TRUE; ComponentLink2URL: https://www.analog.com/media/en/technical-documentation/data-sheets/AD5245.pdf; Manufacturer Part Number: AD5245BRJZ5-RL7; Ipc Land Pattern Name: SOT65P280X145-8; Device Class L3: Digital Potentiometers; Temperature Range Low: -40°C; Octopart: https://octopart.com/ad5245brjz5-rl7-analog+devices-446720; Digikey Description: IC DGTL POT 5KOHM 256TAP SOT23-8; Temperature: -40°C to +125°C; Device Class L2: Data Converter ICs; Height: 1.45mm
footprint FP-RJ-8-IPC_C
footprint FP-RJ-8-IPC_B
footprint FP-RJ-8-IPC_A
pins: 1 W, 2 VDD (power), 3 GND (power), 4 SCL (in), 5 SDA (io), 6 AD0 (io), 7 B, 8 A

## CMP-09083-000143-1
designator U_DPOT_4CH?, comment AD5254BRUZ1-RL7
IC DGTL POT 1KOHM 256TAP 20TSSOP; Operating Supply Current: 3uA; Memory Type: Non-Volatile; Min Supply Voltage: 2.7V; Number of Taps: 256; Max Dual Supply Voltage: 2.75V; Dual Supply Voltage: 2.5V; Quiescent Current: 5uA; Tolerance: 30%; Temperature Coefficient: 650ppm/°C; Max Supply Voltage: 5.5V; Number of Elements: 4; Interface: I2C; Frequency: 400kHz; Resistance: 1kR; Min Dual Supply Voltage: 2.25V; -3db Bandwidth: 4MHz; Min Operating Temperature: -40°C; Max Operating Temperature: 85°C; Lead Free: Contains Lead; Case/Package: TSSOP; Mount: Surface Mount; Number of Pins: 20; Package Quantity: 1000; Nominal Supply Current: 3uA; Series: -; Taper: Linear; Number of Positions: 256; Contact Plating: Tin; RoHS Compliant: Yes; Max Supply Current: 5uA; Number of Circuits: 4; Packaging: Tape and Reel
footprint FP-RU-20-IPC_B
footprint FP-RU-20-IPC_A
footprint FP-RU-20-IPC_C
pins: 1 W0, 2 B0, 3 A0, 4 AD0 (in), 5 ~{WP} (in), 6 W1, 7 B1, 8 A1, 9 SDA (io), 10 VSS (power), 11 A2, 12 B2, 13 W2, 14 SCL (io), 15 DGND (power), 16 AD1 (in), 17 A3, 18 B3, 19 W3, 20 VDD (power)

## CMP-09093-000026-1
designator I2C_P3V?, comment LTC4311CSC6#TRPBF
IC POWER MANAGEMENT; Operating Supply Current: 300uA; Case/Package: SC; Min Operating Temperature: 0°C; Max Operating Temperature: 70°C; RoHS Compliant: Yes; Series: -; Number of Pins: 70; Package Quantity: 2500; Radiation Hardening: No; Mount: Surface Mount; Packaging: Tape and Reel
footprint FP-SC6-6-05-08-1638-IPC_B
footprint FP-SC6-6-05-08-1638-IPC_A
footprint FP-SC6-6-05-08-1638-MFG
footprint FP-SC6-6-05-08-1638-IPC_C
pins: 1 VCC (power), 2 GND (power), 3 ENABLE (in), 4 BUS2, 5 GND (power), 6 BUS1

## CMP-09138-000051-1
designator U_P3V3_LDO?, comment ADM7160AUJZ-3.3-R7
IC REG LINEAR 3.3V 200MA TSOT5; Min Current Limit: 220mA; Dropout Voltage: 150mV; Number of Outputs: 1; Max Input Voltage: 5.5V; Power Supply Rejection Ratio (PSRR): 49dB; Polarity: Positive; Max Supply Current: 265uA; Accuracy: 1%; Min Input Voltage: 2.2V; Output Type: Fixed; Quiescent Current: 10uA; Mount: Surface Mount; Output Voltage: 3.3V; RoHS Compliant: Yes; Lead Free: Contains Lead; Max Operating Temperature: 125°C; Case/Package: TSOT; Number of Pins: 5; Number of Regulators: 1; Max Output Current: 200mA; Min Operating Temperature: -40°C; Output Current: 200mA; Packaging: Tape and Reel; Contact Plating: Tin
footprint FP-UJ-5-IPC_A
footprint FP-UJ-5-IPC_B
footprint FP-UJ-5-IPC_C
pins: 1 VIN (power), 2 GND (power), 3 EN (in), 4 NC, 5 VOUT (power)

## CMP-09138-000128-1
designator U_P2V5_LDO?, comment ADM7160AUJZ-2.5-R2
IC REG LINEAR 2.5V 200MA TSOT5; Number of Outputs: 1; Max Supply Current: 265uA; Min Input Voltage: 2.2V; Accuracy: 1%; Polarity: Positive; Quiescent Current: 10uA; Max Input Voltage: 5.5V; Power Supply Rejection Ratio (PSRR): 49dB; Output Type: Fixed; Dropout Voltage: 150mV; Min Current Limit: 220mA; Output Current: 200mA; Number of Regulators: 1; Case/Package: TSOT; Max Output Current: 200mA; Nominal Output Voltage: 2.5V; Mount: Surface Mount; Output Voltage: 2.5V; Max Operating Temperature: 125°C; Contact Plating: Tin; REACH SVHC: No SVHC; Min Operating Temperature: -40°C; Packaging: Tape and Reel; Number of Pins: 5; RoHS Compliant: Yes; Lead Free: Contains Lead
footprint FP-UJ-5-IPC_A
footprint FP-UJ-5-IPC_B
footprint FP-UJ-5-IPC_C
pins: 1 VIN (power), 2 GND (power), 3 EN (in), 4 NC, 5 VOUT (power)

## CMP-14436-000022-1
designator D1_?, comment PESD2V0Y1BSFYL
TVS DIODE 2VWM 3VC DSN0603-2
footprint FP-SOD962-2-MFG
pins: 1 K1, 2 K2

## CMP-14436-000022-1_1
designator D?, comment PESD2V0Y1BSFYL
TVS DIODE 2VWM 3VC DSN0603-2; Supplier 1: Digikey; Supplier Part Number 1: 1727-PESD2V0Y1BSFYLCT-ND
footprint FP-SOD962-2-MFG
pins: 1 K1, 2 K2

## CMP-28537-006422-1
designator R22_?, comment 2260
Automotive Metal Thin Film Chip Resistor, 0402, 2.26kΩ, 0.1%, 25ppm/°C, 0.0625W, 75V; Voltage Rating: 25V; Power Rating: 30mW; Resistance: 2.26kR; Max Power Dissipation: 63mW; Lead Free: Lead Free; Packaging: Tape and Reel; Case/Package: 0402; Termination: SMD/SMT; Series: RG; Length: 0.039inch; Temperature Coefficient: 25ppm/°C; Max Operating Temperature: 155°C; Resistor Type: Thin Film; Features: Automotive AEC-Q200; Height: 0.016inch; Number of Terminations: 2; Case Code (Metric): 1005; Case Code (Imperial): 0402; Voltage Rating (DC): 25V; RoHS Compliant: Yes; Width: 0.02inch; Min Operating Temperature: -55°C; Tolerance: 0.1%; Package Quantity: 5000
footprint FP-RG1005-IPC_A
footprint FP-RG1005-IPC_C
footprint FP-RG1005-IPC_B
footprint FP-RG1005-MFG
pins: 1, 2

## CON_K_SMT_2d92
designator J_ANA_1G?
Con RF K
footprint CON_K_SMT_2D92_3 (3.5mm SMA Vertical Connector)
footprint CON-001-SMA-ST
pins: 1 GND, 2 GND, 3 1, 4 GND

## CON_K_SMT_2d92_alt
designator J_CLKQUAD_IN?
Con RF K
footprint CON-001-SMA-ST
footprint CON-001-SMA-ST - duplicate
pins: 1, 2 GND, 3 GND

## CT3151-0
designator J_GND_IN?
Banana Jack Connector Standard Banana Solder Black; MF: Cal Test; MP: CT3151-2; SnapEDA_Link: https://www.snapeda.com/parts/CT3151-2/Cal+Test+Electronics/view-part/?ref=snap; Package: None; Value: *; Check_prices: https://www.snapeda.com/parts/CT3151-2/Cal+Test+Electronics/view-part/?ref=eda; Supplier 1: Digikey; Supplier Part Number 1: BKCT3151-0-ND; ClassName: InputPowerComponent
footprint CALTEST_CT3151-0
pins: 1, 2 1, 3 1, 4 1

## CT3151-2
designator J_AVDD_IN?
Banana Jack Connector Standard Banana Solder Red; MF: Cal Test; SnapEDA_Link: https://www.snapeda.com/parts/CT3151-2/Cal+Test+Electronics/view-part/?ref=snap; Package: None; Value: *; MP: CT3151-2; Check_prices: https://www.snapeda.com/parts/CT3151-2/Cal+Test+Electronics/view-part/?ref=eda; Supplier 1: Digikey; Supplier Part Number 1: BKCT3151-2-ND; ClassName: InputPowerComponent
footprint CALTEST_CT3151-2
pins: 1, 2 1, 3 1, 4 1

## CT3151-4
designator J_XVDD_IN_N?
Banana Jack Connector Standard Banana Solder Yellow; MF: Cal Test; MP: CT3151-2; SnapEDA_Link: https://www.snapeda.com/parts/CT3151-2/Cal+Test+Electronics/view-part/?ref=snap; Package: None; Value: *; Check_prices: https://www.snapeda.com/parts/CT3151-2/Cal+Test+Electronics/view-part/?ref=eda; Supplier 1: Digikey; Supplier Part Number 1: BKCT3151-4-ND; ClassName: InputPowerComponent
footprint CALTEST_CT3151-2
pins: 1, 2 1, 3 1, 4 1